# Altium schematic symbol library KingBright LEDs.SchLib: 4 symbols
Pins are listed as number, name and electrical type; pins without a type are passive.

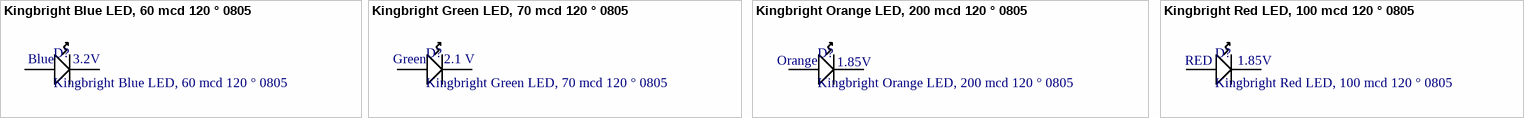
[diagram p0: symbols Kingbright Blue LED, 60 mcd 120 ° 0805 to Kingbright Red LED, 100 mcd 120 ° 0805]

## Kingbright Blue LED, 60 mcd 120 ° 0805
designator D?  Color: Blue  Forward Voltage: 3.2V
Manufacturer Part No.: KP-2012PBC-A; Creator: Ritesh Kanjee; Date Created: 18 February 2015; Manufacturer: KingBright; RS Stock No.: 466-3784; Datasheet URL: http://za.rs-online.com/web/p/visible-leds/4663784/
footprint LED1913X12NBLUE (LED 2-Leads, Body 1.90x1.32mm, IPC Medium Density)
pins: 1 A, 2 K

## Kingbright Green LED, 70 mcd 120 ° 0805
designator D?  Color: Green  Forward Voltage: 2.1 V
Manufacturer Part No.: KP-2012MGC; Creator: Ritesh Kanjee; Date Created: 18 February 2015; Manufacturer: KingBright; RS Stock No.: 466-3778; Datasheet URL: http://za.rs-online.com/web/p/visible-leds/4663778/
footprint LED1913X12NGREEN (LED 2-Leads, Body 1.90x1.32mm, IPC Medium Density)
pins: 1 A, 2 K

## Kingbright Orange LED, 200 mcd 120 ° 0805
designator D?  Color: Orange  Forward Voltage: 1.85V
Manufacturer Part No.: KP-2012SEC; Creator: Ritesh Kanjee; Date Created: 18 February 2015; Manufacturer: KingBright; RS Stock No.: 466-3790; Datasheet URL: http://za.rs-online.com/web/p/visible-leds/4663790/
footprint LED1913X12NYEL/ORANGE (LED 2-Leads, Body 1.90x1.32mm, IPC Medium Density)
pins: 1 A, 2 K

## Kingbright Red LED, 100 mcd 120 ° 0805
designator D?  Color: RED  Forward Voltage: 1.85V
Manufacturer Part No.: KP-2012SRC-PRV; Creator: Ritesh Kanjee; Date Created: 18 February 2015; Manufacturer: KingBright; RS Stock No.: 466-3813; Datasheet URL: http://za.rs-online.com/web/p/visible-leds/4663813/
footprint LED1913X12NRED (LED 2-Leads, Body 1.90x1.32mm, IPC Medium Density)
pins: 1 A, 2 K